# EAGLE library part SQ4401EY-T1-GE3 (library Vishay)
MOSFET
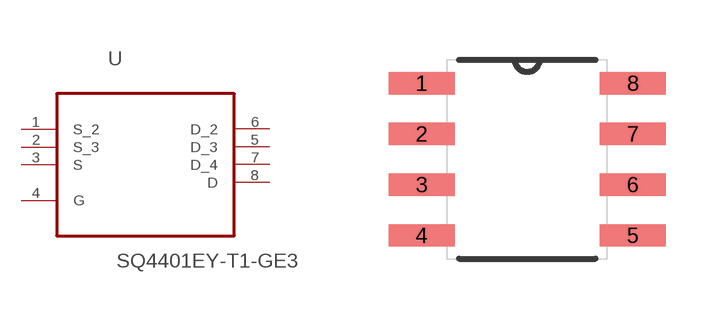
[diagram p106: symbol with the pads of SOIC127P600X175-8N; footprint SOIC127P600X175-8N]

Designator prefix U

## SQ4401EY-T1-GE3 (MPN: SQ4401EY-T1-GE3; OC_FARNELL: 1869891; OC_NEWARK: 37T8277; PACKAGE: SOIC-8; SUPPLIER: VISHAY)  [SOIC127P600X175-8N]
1  S_2  pas
2  S_3  pas
3  S  pas
4  G  pas
5  D_3  pas
6  D_2  pas
7  D_4  pas
8  D  pas

## Footprint SOIC127P600X175-8N (pad centres in mm)
smd 1.651 x 0.559: 1 -2.642,1.905; 2 -2.642,0.635; 3 -2.642,-0.635; 4 -2.642,-1.905; 5 2.642,-1.905; 6 2.642,-0.635; 7 2.642,0.635; 8 2.642,1.905